# EAGLE library part RASPBERRY-CONNECTOR (library ELL-i-Boards)
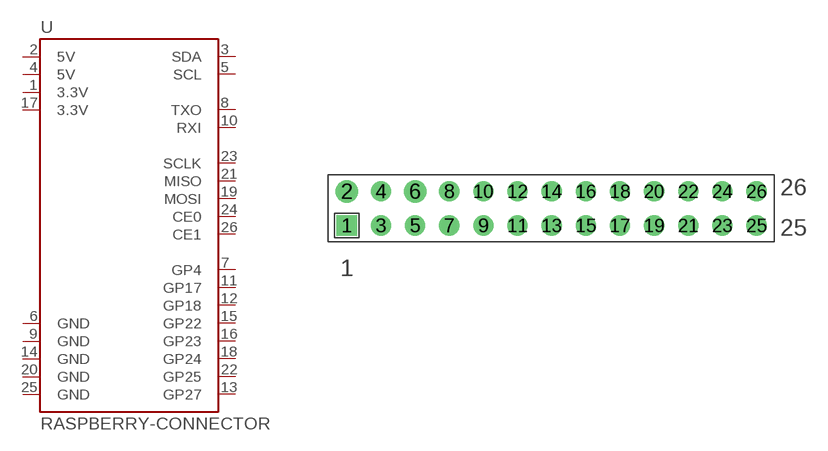
[diagram p0: symbol with the pads of RASPBERRYPI-SHIELD-CONNECTOR; footprint RASPBERRYPI-SHIELD-CONNECTOR]

Designator prefix -

## RASPBERRY-CONNECTOR  [RASPBERRYPI-SHIELD-CONNECTOR]
1  3.3V  pwr
2  5V  pwr
3  SDA
4  5V  pwr
5  SCL
6  GND  pwr
7  GP4
8  TXO  out
9  GND  pwr
10  RXI  in
11  GP17
12  GP18
13  GP27
14  GND  pwr
15  GP22
16  GP23
17  3.3V  pwr
18  GP24
19  MOSI  out
20  GND  pwr
21  MISO  in
22  GP25
23  SCLK  out
24  CE0  out
25  GND  pwr
26  CE1  out

## Footprint RASPBERRYPI-SHIELD-CONNECTOR (pad centres in mm)
drill 1 square: 1 -15.24,-1.27
drill 1 pad 1.676: 2 -15.24,1.27; 6 -10.16,1.27
drill 1: 3 -12.7,-1.27; 4 -12.7,1.27; 5 -10.16,-1.27; 7 -7.62,-1.27; 8 -7.62,1.27; 9 -5.08,-1.27; 10 -5.08,1.27; 11 -2.54,-1.27; 12 -2.54,1.27; 13 0,-1.27; 14 0,1.27; 15 2.54,-1.27; 16 2.54,1.27; 17 5.08,-1.27; 18 5.08,1.27; 19 7.62,-1.27; 20 7.62,1.27; 21 10.16,-1.27; 22 10.16,1.27; 23 12.7,-1.27; 24 12.7,1.27; 25 15.24,-1.27; 26 15.24,1.27